# Altium footprint library DS1818R-5_.PcbLib: 1 footprints
Each footprint in its own frame and in the unit in brackets; x right, y up, seen from the top. Pads: shape width x height; smd on the part's side, far side on the other; paste and mask are expansions set on the pad; w line width, h text height; cw(c..) or ccw(c..) is an arc to the next point about the centre after c.
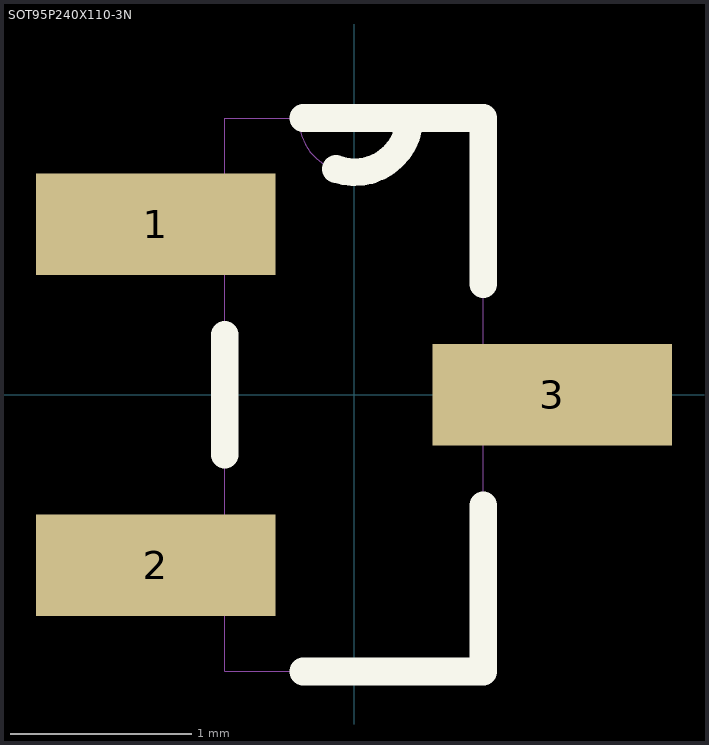
[diagram p0: the footprint, top view; thin cyan lines are the x and y axes]

## SOT95P240X110-3N [mil]
pads (3):
  rect 52x22 smd: 1(-43,37) 2(-43,-37) 3(43,0)
Top Overlay:
  lines w6: -28,-13 -28,13 ; -11,-60 28,-60 28,-24 ; -11,60 12,60 28,60 28,24 ; -3.9,48.96 ccw(c0.15,60.1) 12,60.1
Mechanical 4:
  lines w0: -52,-47 -52,-28 ; -52,-47 -28,-47 ; -52,-47 -52,-28 ; -52,-47 -28,-47 ; -52,-28 -28,-28 ; -52,-28 -28,-28 ; -52,28 -52,47 ; -52,28 -28,28 ; -52,28 -52,47 ; -52,28 -28,28 ; -52,47 -28,47 ; -52,47 -28,47 ; -28,-60 28,-60 ; -28,-60 -28,-47 ; -28,-60 28,-60 ; -28,-60 -28,-47 ; -28,-47 -28,-28 ; -28,-47 -28,-28 ; -28,-28 -28,28 ; -28,-28 -28,28 ; -28,28 -28,47 ; -28,28 -28,47 ; -28,47 -28,60 ; -28,47 -28,60 ; -28,60 -12,60 ; -28,60 -12,60 ; -12,60 ccw(c0,60) 12,60 ; -12,60 ccw(c0,60) 12,60 ; -12,60 12,60 ; -12,60 12,60 ; 12,60 28,60 ; 12,60 28,60 ; 28,-60 28,-10 ; 28,-60 28,-10 ; 28,-10 28,10 ; 28,-10 52,-10 ; 28,-10 28,10 ; 28,-10 52,-10 ; 28,10 28,60 ; 28,10 52,10 ; 28,10 28,60 ; 28,10 52,10 ; 52,-10 52,10 ; 52,-10 52,10